# Altium footprint library PcbLib1.PcbLib: 2 footprints
Each footprint in its own frame and in the unit in brackets; x right, y up, seen from the top. Pads: shape width x height; smd on the part's side, far side on the other; paste and mask are expansions set on the pad; w line width, h text height; cw(c..) or ccw(c..) is an arc to the next point about the centre after c.
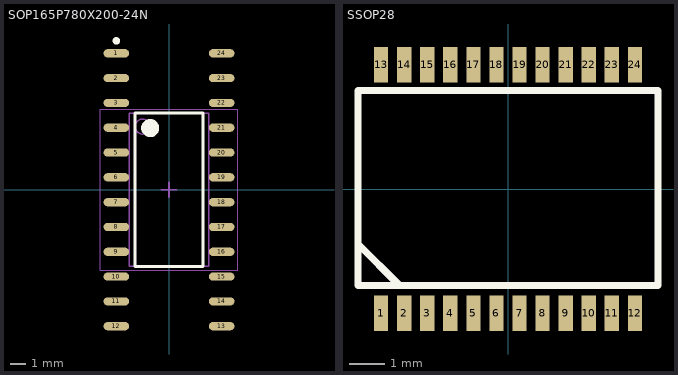
[diagram p0: the footprints below, top view; thin cyan lines are the x and y axes]

## SOP165P780X200-24N [mm] "SOP, 24-Leads, Body 10,20x5,30mm, Pitch 1,65mm, IPC Medium Density"
height 2
pads (24):
  oval 1.7x0.55 smd: 1(-3.5,9.075) 2(-3.5,7.425) 3(-3.5,5.775) 4(-3.5,4.125) 5(-3.5,2.475) 6(-3.5,0.825) 7(-3.5,-0.825) 8(-3.5,-2.475) 9(-3.5,-4.125) 10(-3.5,-5.775) 11(-3.5,-7.425) 12(-3.5,-9.075) 13(3.5,-9.075) 14(3.5,-7.425) 15(3.5,-5.775) 16(3.5,-4.125) 17(3.5,-2.475) 18(3.5,-0.825) 19(3.5,0.825) 20(3.5,2.475) 21(3.5,4.125) 22(3.5,5.775) 23(3.5,7.425) 24(3.5,9.075)
Top Overlay:
  circle w0.6: c-1.25,4.1 r0.3
  circle w0.25: c-3.5,9.9 r0.125
  lines w0.2: -2.25,-5.1 2.25,-5.1 2.25,5.1 -2.25,5.1 -2.25,-5.1
Mechanical 13:
  circle w0.1: c-1.75,4.2 r0.5
  lines w0.1: -2.65,-5.1 2.65,-5.1 2.65,5.1 -2.65,5.1 -2.65,-5.1
Mechanical 15:
  lines w0.05: -4.575,-5.35 4.575,-5.35 4.575,5.35 -4.575,5.35 -4.575,-5.35
  lines w0.1: -0.5,0 0.5,0 ; 0,-0.5 0,0.5
3D body: height 2, standoff 0.1, extent -2.65,-5.1 2.65,5.1

## SSOP28 [mm] "ssop28"
height 2
pads (24):
  rect 0.4x1 smd: 1(-3.575,-3.5) 2(-2.925,-3.5) 3(-2.275,-3.5) 4(-1.625,-3.5) 5(-0.975,-3.5) 6(-0.325,-3.5) 7(0.325,-3.5) 8(0.975,-3.5) 9(1.625,-3.5) 10(2.275,-3.5) 11(2.925,-3.5) 12(3.575,-3.5) 13(-3.575,3.5) 14(-2.925,3.5) 15(-2.275,3.5) 16(-1.625,3.5) 17(-0.975,3.5) 18(-0.325,3.5) 19(0.325,3.5) 20(0.975,3.5) 21(1.625,3.5) 22(2.275,3.5) 23(2.925,3.5) 24(3.575,3.5)
Top Overlay:
  lines w0.203: -3.064,-2.711 -4.225,-1.55 ; -4.225,-1.55 -4.225,-1.55 ; -4.225,-2.719 -4.225,2.772 4.225,2.772 4.225,-2.719 -4.225,-2.719
3D body: height 2, standoff 0, extent -4.327,-2.82 4.327,2.874